# EAGLE library part PCA9306 (library kwoo)
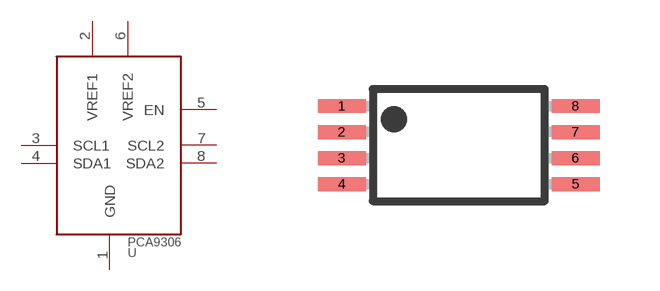
[diagram p22: symbol with the pads of TSSOP8; footprint TSSOP8]

Designator prefix -

## PCA9306  [TSSOP8]
1  GND
2  VREF1
3  SCL1
4  SDA1
5  EN
6  VREF2
7  SCL2
8  SDA2

## Footprint TSSOP8 (pad centres in mm)
Plastic Small Outline
smd 1.2 x 0.35: 1 -2.925,0.975; 2 -2.925,0.325; 3 -2.925,-0.325; 4 -2.925,-0.975; 5 2.925,-0.975; 6 2.925,-0.325; 7 2.925,0.325; 8 2.925,0.975